# EAGLE library part LTC1992 (library di_ic)
Linear Technology - LTC1992 - Low Power, Fully Differential Input/Output Amplifier/Driver Family http://cds.linear.com/docs/Datasheet/1992fb.pdf
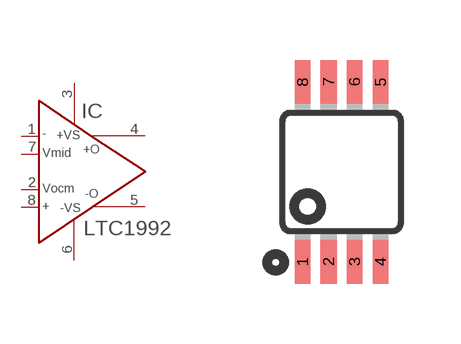
[diagram p58: symbol with the pads of MSOP8; footprint MSOP8]

Designator prefix IC

## LTC1992 (DIGIKEY: LTC1992-1CMS8#PBF-ND)  [MSOP8]
1  IN-  in
2  VOCM  in
3  +VS  pas
4  OUT+  out
5  OUT-  out
6  -VS  pas
7  VMID  in
8  IN+  in

## Footprint MSOP8 (pad centres in mm)
8M, 8-Lead, 0.118" Wide, Miniature Small Outline Package MSOP 8M-Package doc1097.pdf
smd 0.4 x 1.1: 1 -0.975,-2.25; 2 -0.325,-2.25; 3 0.325,-2.25; 4 0.975,-2.25; 5 0.975,2.25; 6 0.325,2.25; 7 -0.325,2.25; 8 -0.975,2.25